# EAGLE library part SN76489 (library TMS99)
SN76489 Sound Chip
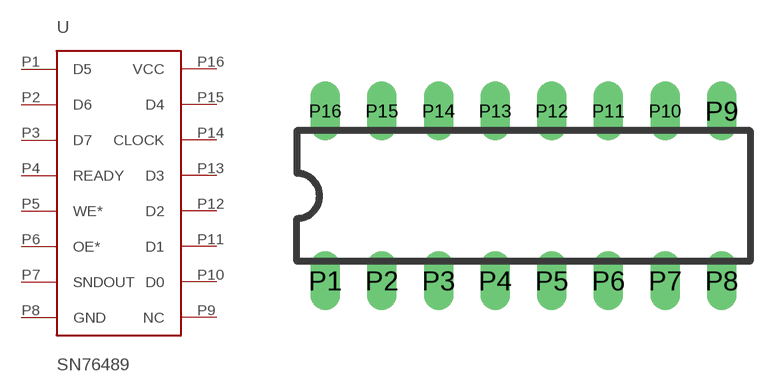
[diagram p1: symbol with the pads of DIP16; footprint DIP16]

Designator prefix U

## SN76489  [DIP16]
P1  D5
P2  D6
P3  D7
P4  READY
P5  WE*
P6  OE*
P7  SNDOUT
P8  GND
P9  NC
P10  D0
P11  D1
P12  D2
P13  D3
P14  CLOCK
P15  D4
P16  VCC

## Footprint DIP16 (pad centres in mm)
Dual In Line Package
drill 0.813 long: P1 -8.89,-3.81; P2 -6.35,-3.81; P3 -3.81,-3.81; P4 -1.27,-3.81; P5 1.27,-3.81; P6 3.81,-3.81; P7 6.35,-3.81; P8 8.89,-3.81; P9 8.89,3.81; P10 6.35,3.81; P11 3.81,3.81; P12 1.27,3.81; P13 -1.27,3.81; P14 -3.81,3.81; P15 -6.35,3.81; P16 -8.89,3.81